# Altium schematic symbol library Schlib_Course_Mitr.SchLib: 14 symbols
Pins are listed as number, name and electrical type; pins without a type are passive.

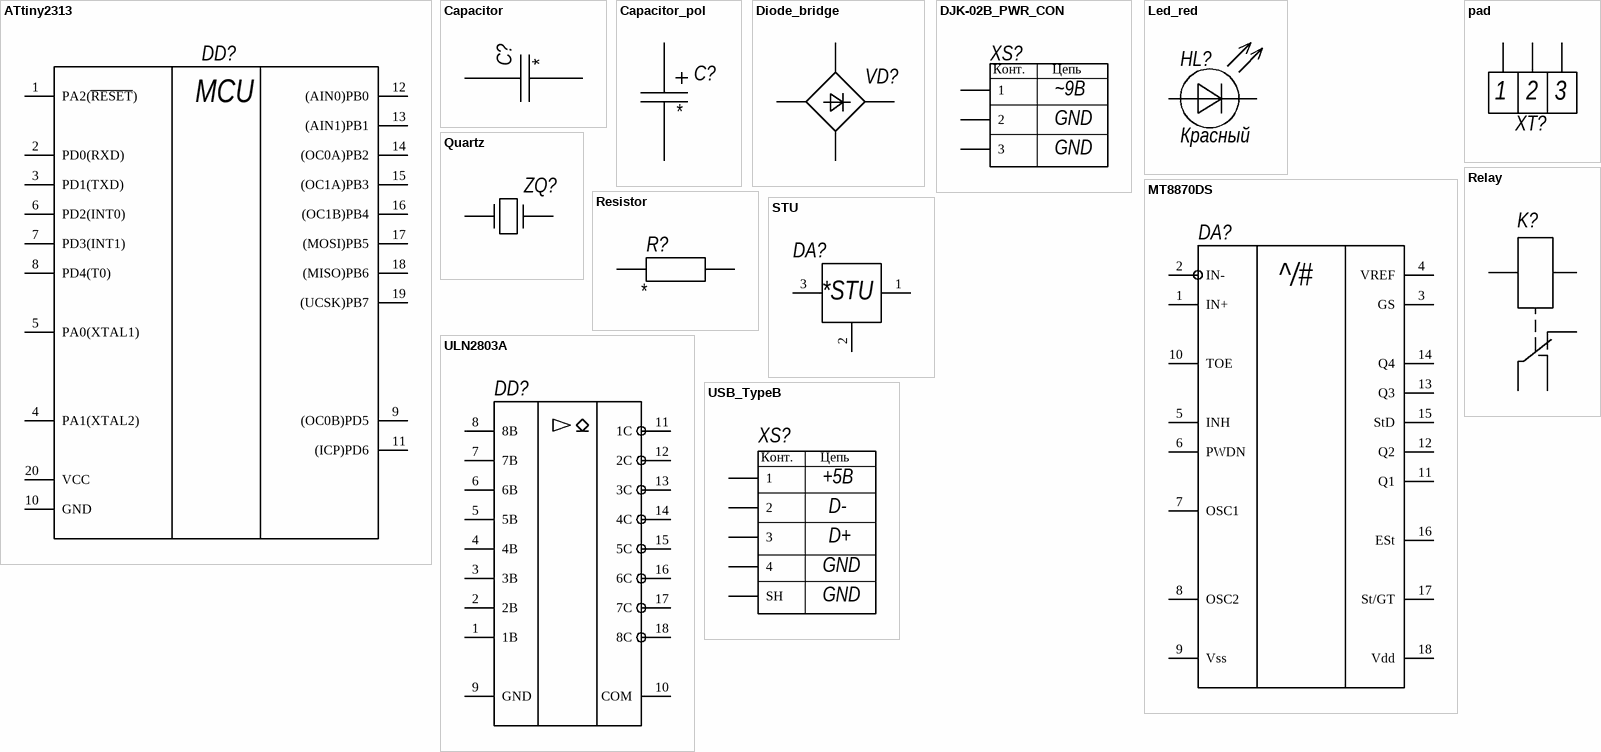
[diagram p0: symbols ATtiny2313 to USB_TypeB]

## ATtiny2313
designator DD?  (value not drawn)
ValueManufacture: ATMEGA; ValueDescription: Микроконтроллер; Case: soic-20(0.295 inch); ValueType: Микроконтроллер; ValueManufacturePartNumber: ATtiny2313
footprint ATtiny2313-SOP20
pins: 1 PA2(~{RESET}), 2 PD0(RXD), 3 PD1(TXD), 4 PA1(XTAL2), 5 PA0(XTAL1), 6 PD2(INT0), 7 PD3(INT1), 8 PD4(T0), 9 (OC0B)PD5, 10 GND, 11 (ICP)PD6, 12 (AIN0)PB0, 13 (AIN1)PB1, 14 (OC0A)PB2, 15 (OC1A)PB3, 16 (OC1B)PB4, 17 (MOSI)PB5, 18 (MISO)PB6, 19 (UCSK)PB7, 20 VCC
text: MCU

## Capacitor
designator C?
ValueType: Конденсатор; Value: *; Tolerance: *; Dielectric: *; Voltage: *; ESR: *; URL: *; Temp: *; Power: *; Case: *; ValueManufacturer: *; ValueManufacturerPartNumber: *; ValueDescription: *
footprint 0805_CAP
pins: 1, 2

## Capacitor_pol
designator C?
ValueType: Конденсатор; Value: *; Tolerance: *; Dielectric: *; Voltage: *; ESR: *; URL: *; Temp: *; Power: *; Case: *; ValueManufacturer: *; ValueManufacturerPartNumber: *; ValueDescription: *
footprint Pol_CAP
pins: 1, 2
2 alternate drawings of the same symbol

## Diode_bridge
designator VD?, comment DF04S  (value not drawn)
Manufacture: Диодный Мост; PartNumber: DF04S; Case: SDIP
footprint Diode_Bridge
pins: 1, 2, 3, 4

## DJK-02B_PWR_CON
designator XS?, comment DJK-02B  (value not drawn)
ValueManufacturer: KLS; ValueType: Разъем питания; URL: *; TEMP: *; Case: *; ValueManufacturerPartNumber: DJK-02B; ValueDescription: DJK-02B
footprint DJK-02B
pins: 1, 2, 3
text: Конт.; Цепь; ~9В; GND

## Led_red
designator HL?, comment Красный
ValueManufacturer: Foryard; ValueManufacturerPartNumber: fyls-0603urc; Temp: -55...+150; ValueType: Светодиод; Value: Красный; URL: *; Case: 0603; ValueDescription: Светодиод
footprint Blink_RED
pins: A 9, K 10

## MT8870DS
designator DA?  (value not drawn)
footprint CM8870C-SOP18
pins: 1 IN+, 2 IN-, 3 GS, 4 VREF, 5 INH, 6 PWDN, 7 OSC1, 8 OSC2, 9 Vss, 10 TOE, 11 Q1, 12 Q2, 13 Q3, 14 Q4, 15 StD, 16 ESt, 17 St/GT, 18 Vdd
text: ^/#

## pad
designator XT?, comment KLS2  (value not drawn)
footprint pad
pins: 1, 2, 3

## Quartz
designator ZQ?
ValueType: Кварцевый резонатор; ValueManufacturer: *; ValueManufacturerPartNumber: *; ValueDescription: *
footprint Quartz
pins: 1, 2

## Relay
designator K?, comment LEG-12  (value not drawn)
footprint LEG-12
pins: 1, 2, 3, 4, 5

## Resistor
designator R?
ValueType: Резистор; Value: *; Tolerance: *; URL: *; Temp: *; Power: *; Case: *; ValueManufacturerPartNumber: *; ValueDescription: *
footprint 0805_RES
pins: 1, 2

## STU
designator DA?, comment 78L05  (value not drawn)
footprint STU
pins: 1, 2, 3
text: *STU

## ULN2803A
designator DD?  (value not drawn)
footprint ULN2803-SOP18
pins: 1 1В, 2 2В, 3 3В, 4 4В, 5 5В, 6 6В, 7 7В, 8 8В, 9 GND, 10 COM, 11 1С, 12 2С, 13 3С, 14 4C, 15 5С, 16 6С, 17 7С, 18 8С

## USB_TypeB
designator XS?  (value not drawn)
ValueManufacturer: Te Connectivity; ValueManufacturerPartNumber: 292304-1; ValueType: USB разъем тип B; Value: *; URL: *
footprint USB-B TE Connectivity 292304-1
pins: 0 SH, 1, 2, 3, 4
text: Конт.; Цепь; +5В; D-; D+; GND